# EAGLE library part LM2902 (library Dal_V2)
Texas Instruments, LM2902KD
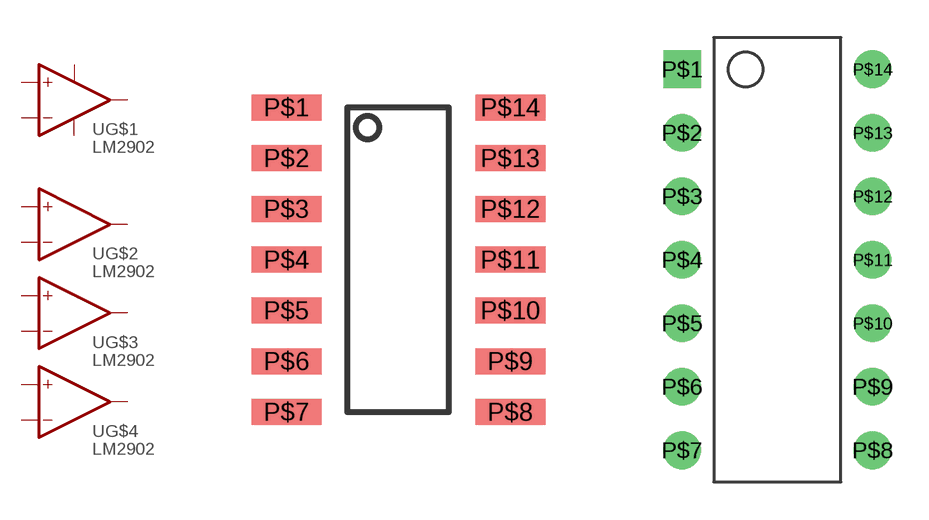
[diagram p23: symbol with the pads of SO16LNB-14PIN; footprints SO16LNB-14PIN, DIP14]

Designator prefix U; gates G$2=OPAMP G$3=OPAMP G$4=OPAMP G$1=OPAMP_PWR

## LM2902  [SO16LNB-14PIN]
P$1  G$1:OUT  out
P$2  G$1:-IN  in
P$3  G$1:+IN  in
P$4  G$1:P+  pas
P$5  G$2:+IN  in
P$6  G$2:-IN  in
P$7  G$2:OUT  out
P$8  G$3:OUT  out
P$9  G$3:-IN  in
P$10  G$3:+IN  in
P$11  G$1:P-  pas
P$12  G$4:+IN  in
P$13  G$4:-IN  in
P$14  G$4:OUT  out

## LM2902-DIP14  [DIP14]
Pads as for SO16LNB-14PIN

## Footprint SO16LNB-14PIN (pad centres in mm)
16-Lead SOIC Narrow Body Taken from Fairchild Datasheet for transistor array (MMPQ3904) Should also work for Texas Instruments, LM2902KD
smd 1.75 x 0.65: P$1 0,0; P$2 0,-1.27; P$3 0,-2.54; P$4 0,-3.81; P$5 0,-5.08; P$6 0,-6.35; P$7 0,-7.62; P$8 5.6,-7.62; P$9 5.6,-6.35; P$10 5.6,-5.08; P$11 5.6,-3.81; P$12 5.6,-2.54; P$13 5.6,-1.27; P$14 5.6,0

## Footprint DIP14 (pad centres in mm)
drill 1 square: P$1 0,0
drill 1: P$2 0,-2.54; P$3 0,-5.08; P$4 0,-7.62; P$5 0,-10.16; P$6 0,-12.7; P$7 0,-15.24; P$8 7.62,-15.24; P$9 7.62,-12.7; P$10 7.62,-10.16; P$11 7.62,-7.62; P$12 7.62,-5.08; P$13 7.62,-2.54; P$14 7.62,0